# Altium schematic symbol library bs_libs.SchLib: 114 symbols
Pins are listed as number, name and electrical type; pins without a type are passive.

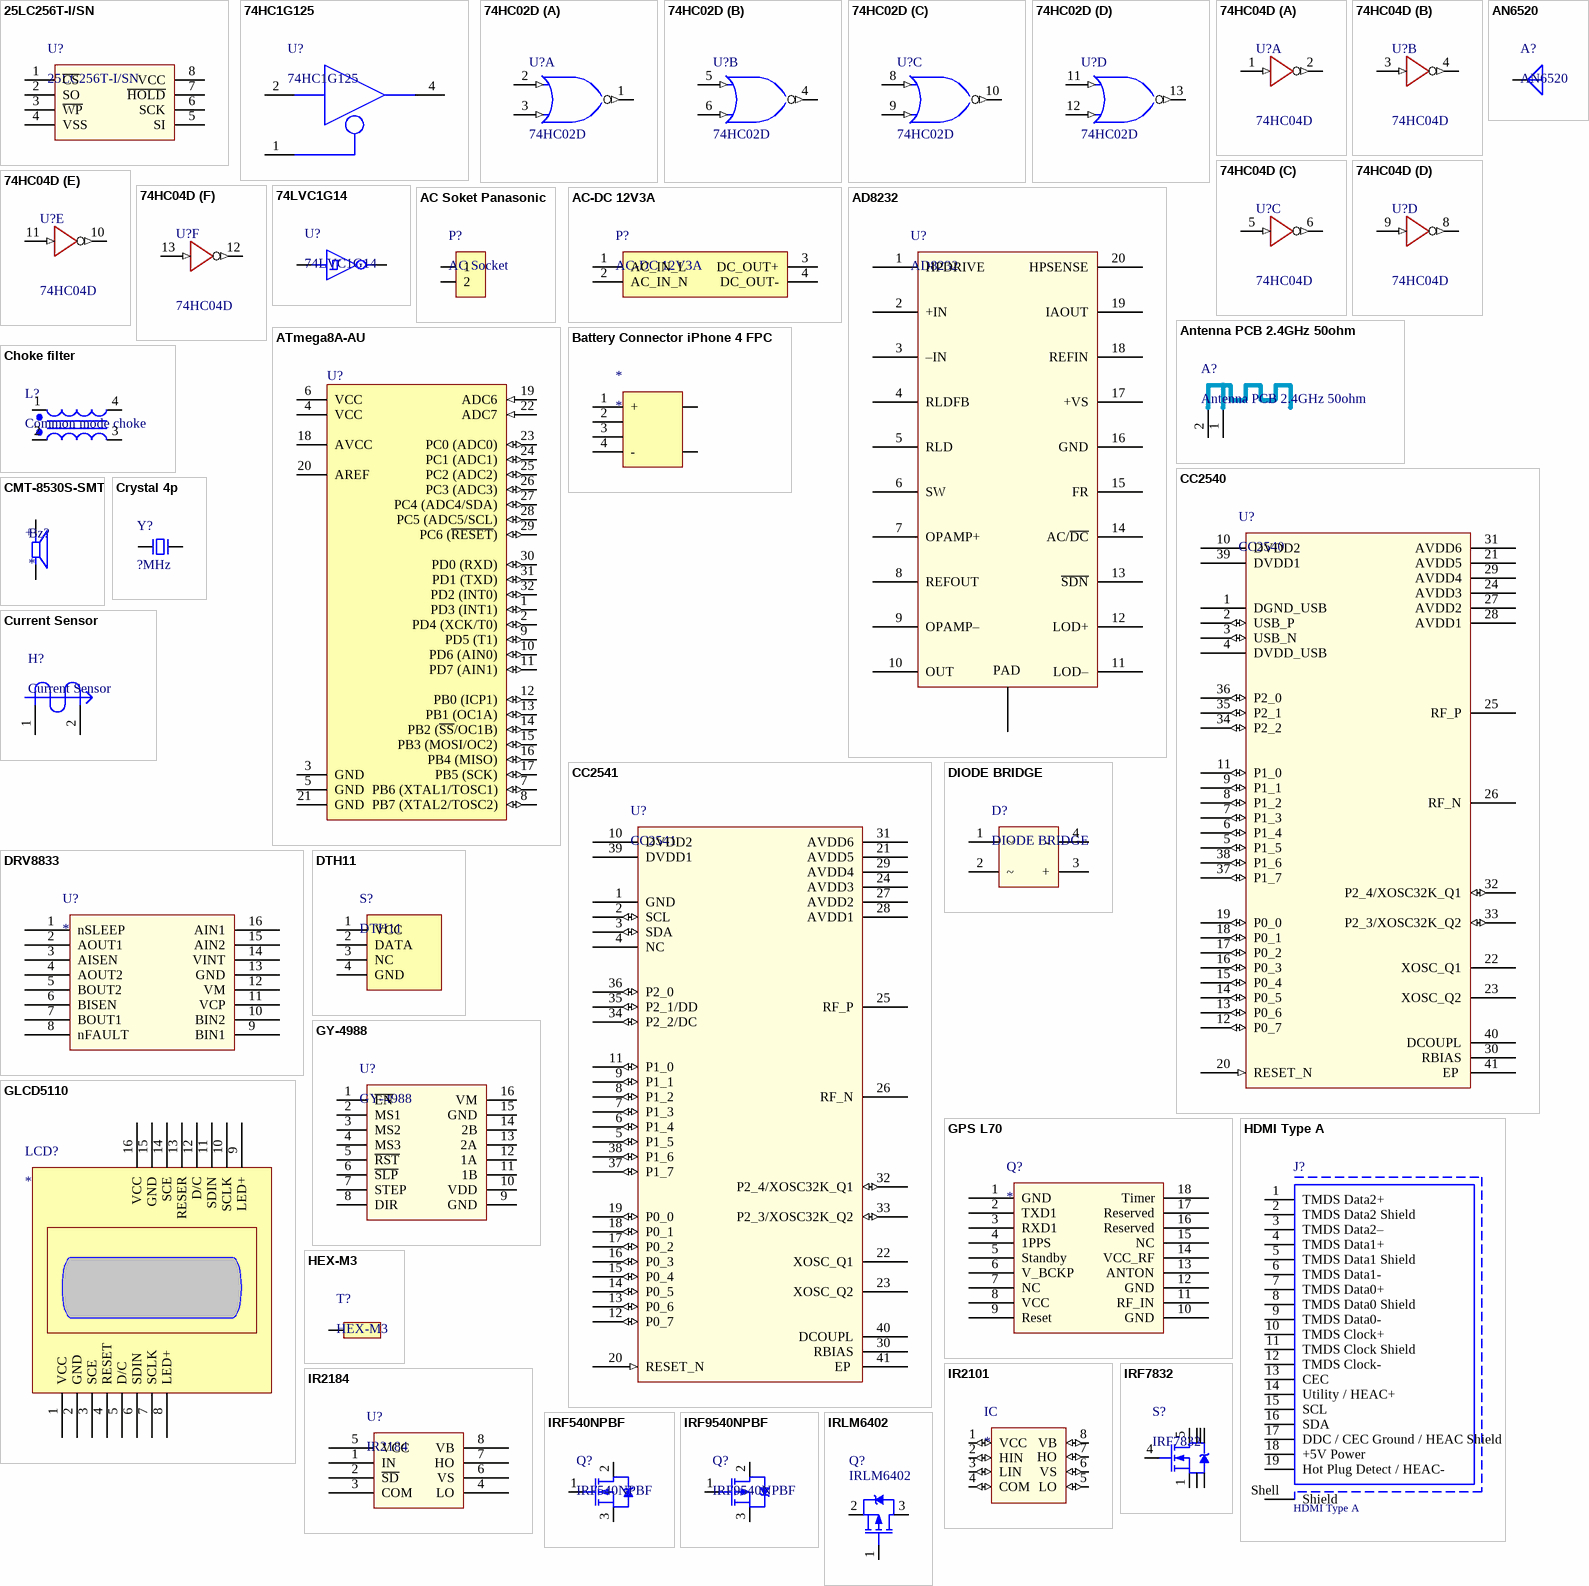
[diagram p0: symbols 25LC256T-I/SN to IRLM6402]

## 25LC256T-I/SN
designator U?
IC EEPROM 256K SPI 10MHZ 8SOIC
footprint SOIC-8-I/SN (SOIC, 8-Leads, Body 5.0x4.0mm (max), Pitch 1.27mm, IPC Medium Density)
pins: 1 ~{CS}, 2 SO, 3 ~{WP} (power), 4 VSS, 5 SI, 6 SCK, 7 ~{HOLD}, 8 VCC

## 74HC1G125
designator U?
footprint TSSOP5
pins: 1 ~{OE}, 2 A, 3 GND (power) hidden to GND, 4 Y, 5 VCC (power) hidden to VCC

## 74HC02D
designator U?
Quadruple 2-Input Positive-NOR Gate
footprint SOIC-14 (SOIC, 14-Leads, Body 8.6x3.9mm (max), Pitch 1.27mm, IPC Medium Density)
pins on every part: 7 GND (power) hidden to GND, 14 VCC (power) hidden to VCC
part A pins: 1 Y (out), 2 A (in), 3 B (in)
part B pins: 4 Y (out), 5 A (in), 6 B (in)
part C pins: 8 A (in), 9 B (in), 10 Y (out)
part D pins: 11 A (in), 12 B (in), 13 Y (out)

## 74HC04D
designator U?
IC INVERTER HEX TTL/LSTTL 14SOIC
footprint SOIC-14 (SOIC, 14-Leads, Body 8.6x3.9mm (max), Pitch 1.27mm, IPC Medium Density)
pins on every part: 7 GND (power) hidden to GND, 14 VCC (power) hidden to VCC
part A pins: 1 A1 (in), 2 Y1 (out)
part B pins: 3 A2 (in), 4 Y2 (out)
part C pins: 5 A3 (in), 6 Y3 (out)
part D pins: 8 Y4 (out), 9 A4 (in)
part E pins: 10 Y5 (out), 11 A5 (in)
part F pins: 12 Y6 (out), 13 A6 (in)

## 74LVC1G14
designator U?
IC SNGL SCHMITT TRIG INV 5TSOP
footprint SOT-23-5 (SOT23, 5-Leads, Body 3.0x3.0mm (max), Pitch 0.95mm, IPC Medium Density)
pins: 1 NC hidden, 2 A, 3 GND (power) hidden to GND, 4 Y, 5 VCC (power) hidden to VCC

## AC Soket Panasonic
designator P?, comment AC Socket
AC Soket Panasonic
footprint AC Socket Panasonic (O cam dien panasonic)
pins: 1, 2

## AC-DC 12V3A
designator P?
footprint AC-DC 12V3A (O cam dien panasonic)
footprint AC-DC 12V2A (O cam dien panasonic)
footprint AC-DC 12V1A
pins: 1 AC_IN_L, 2 AC_IN_N, 3 DC_OUT+, 4 DC_OUT-

## AD8232
designator U?
footprint QFN P50 20 AD8232
pins: 0 PAD, 1 HPDRIVE, 2 +IN, 3 –IN, 4 RLDFB, 5 RLD, 6 SW, 7 OPAMP+, 8 REFOUT, 9 OPAMP–, 10 OUT, 11 LOD–, 12 LOD+, 13 ~{SDN}, 14 AC/~{DC}, 15 FR, 16 GND, 17 +VS, 18 REFIN, 19 IAOUT, 20 HPSENSE

## AN6520
designator A?
2.4GHz SMD Multilayer Chip Antenna 6.5x2.2x1.0 mm; BRAND: Rainsun; PACKAGE: 6.5mm(L)X2.2mm(W)X1.0mm(H); PART NO: AN6520; STOCK CODE: AN6520; SUPPLIER: TME; TYPE: SMD
footprint AN6520 (2.4GHz SMD Multilayer Chip Antenna 6.5x2.2x1.0 mm)
pins: 1, 2 hidden

## Antenna PCB 2.4GHz 50ohm
designator A?
TYPE: DNF
footprint Antenna PCB 2.4GHz 50ohm
pins: 1, 2

## ATmega8A-AU
designator U?
8-bit AVR Microcontroller, 8KB Flash, 512 Bytes EEPROM, 1KB SRAM, 32-pin TQFP, Industrial Grade (-40°C to 85°C)
footprint QFP 80P 32 (TQFP, 32-Leads, Body 9.0x9.0mm (max), Pitch 0.80mm, IPC Medium Density)
pins: 1 PD3 (INT1) (io), 2 PD4 (XCK/T0) (io), 3 GND (power), 4 VCC (power), 5 GND (power), 6 VCC (power), 7 PB6 (XTAL1/TOSC1) (io), 8 PB7 (XTAL2/TOSC2) (io), 9 PD5 (T1) (io), 10 PD6 (AIN0) (io), 11 PD7 (AIN1) (io), 12 PB0 (ICP1) (io), 13 PB1 (OC1A) (io), 14 PB2 (~{SS}/OC1B) (io), 15 PB3 (MOSI/OC2) (io), 16 PB4 (MISO) (io), 17 PB5 (SCK) (io), 18 AVCC (power), 19 ADC6 (in), 20 AREF (power), 21 GND (power), 22 ADC7 (in), 23 PC0 (ADC0) (io), 24 PC1 (ADC1) (io), 25 PC2 (ADC2) (io), 26 PC3 (ADC3) (io), 27 PC4 (ADC4/SDA) (io), 28 PC5 (ADC5/SCL) (io), 29 PC6 (~{RESET}) (io), 30 PD0 (RXD) (io), 31 PD1 (TXD) (io), 32 PD2 (INT0) (io)

## Battery Connector iPhone 4 FPC
designator *
footprint CON iPhone 4 Battery (FPC Flex Battery Connector Plug For iPhone 4 4G)
pins: 1 +, 2 NC, 3 NC, 4 -, 5 PAD, 6 PAD

## CC2540
designator U?
IC SOC BLUETOOTH SMART 40VQFN; PART NO: CC2540F128RHAR; BRAND: TI; PACKAGE: 40-VFQFN; TYPE: SMD
footprint QFN P50 40 CC254x (L)
footprint QFN P50 40 CC254x (N)
pins: 1 DGND_USB "Connect to GND", 2 USB_P (io) "USB P", 3 USB_N (io) "USB N", 4 DVDD_USB "2-V–3.6-V digital power-supply connection", 5 P1_5 (io) "Port 1.5", 6 P1_4 (io) "Port 1.4", 7 P1_3 (io) "Port 1.3", 8 P1_2 (io) "Port 1.2", 9 P1_1 (io) "Port 1.1 – 20-mA drive capability", 10 DVDD2 "2-V–3.6-V digital power-supply connection", 11 P1_0 (io) "Port 1.0 – 20-mA drive capability", 12 P0_7 (io) "Port 0.7", 13 P0_6 (io) "Port 0.6", 14 P0_5 (io) "Port 0.5", 15 P0_4 (io) "Port 0.4", 16 P0_3 (io) "Port 0.3", 17 P0_2 (io) "Port 0.2", 18 P0_1 (io) "Port 0.1", 19 P0_0 (io) "Port 0.0", 20 RESET_N (in) "Digital input", 21 AVDD5 "2-V–3.6-V analog power-supply connection", 22 XOSC_Q1 "32-MHz crystal oscillator pin 1 or external-clock input", 23 XOSC_Q2 "32-MHz crystal oscillator pin 2", 24 AVDD3 "2-V–3.6-V analog power-supply connection", 25 RF_P "Positive RF input signal to LNA during RX", 26 RF_N "Negative RF input signal to LNA during RX", 27 AVDD2 "2-V–3.6-V analog power-supply connection", 28 AVDD1 "2-V–3.6-V analog power-supply connection", 29 AVDD4 "2-V–3.6-V analog power-supply connection", 30 RBIAS "External precision bias resistor for reference current", 31 AVDD6 "2-V–3.6-V analog power-supply connection", 32 P2_4/XOSC32K_Q1 (io) "Port 2.4/32.768 kHz XOSC", 33 P2_3/XOSC32K_Q2 (io) "Port 2.3/32.768 kHz XOSC", 34 P2_2 (io) "Port 2.2", 35 P2_1 (io) "Port 2.1", 36 P2_0 (io) "Port 2.0", 37 P1_7 (io) "Port 1.7", 38 P1_6 (io) "Port 1.6", 39 DVDD1 "2-V–3.6-V digital power-supply connection", 40 DCOUPL "1.8-V digital power-supply decoupling. Do not use for supplying external circuits.", 41 EP  "Exposed Pad"

## CC2541
designator U?
IC SOC BLUETOOTH SMART 40VQFN; BRAND: TI; PACKAGE: 40-VFQFN; TYPE: SMD
footprint QFN P50 40 CC254x (L)
footprint QFN P50 40 CC254x (N)
pins: 1 GND "Connect to GND", 2 SCL (io) "Can be used as I2C clock pin or digital I/O", 3 SDA (io) "Can be used as I2C data pin or digital I/O", 4 NC "Not connected", 5 P1_5 (io) "Port 1.5", 6 P1_4 (io) "Port 1.4", 7 P1_3 (io) "Port 1.3", 8 P1_2 (io) "Port 1.2", 9 P1_1 (io) "Port 1.1 – 20-mA drive capability", 10 DVDD2 "2-V–3.6-V digital power-supply connection", 11 P1_0 (io) "Port 1.0 – 20-mA drive capability", 12 P0_7 (io) "Port 0.7", 13 P0_6 (io) "Port 0.6", 14 P0_5 (io) "Port 0.5", 15 P0_4 (io) "Port 0.4", 16 P0_3 (io) "Port 0.3", 17 P0_2 (io) "Port 0.2", 18 P0_1 (io) "Port 0.1", 19 P0_0 (io) "Port 0.0", 20 RESET_N (in) "Digital input", 21 AVDD5 "2-V–3.6-V analog power-supply connection", 22 XOSC_Q1 "32-MHz crystal oscillator pin 1 or external-clock input", 23 XOSC_Q2 "32-MHz crystal oscillator pin 2", 24 AVDD3 "2-V–3.6-V analog power-supply connection", 25 RF_P "Positive RF input signal to LNA during RX", 26 RF_N "Negative RF input signal to LNA during RX", 27 AVDD2 "2-V–3.6-V analog power-supply connection", 28 AVDD1 "2-V–3.6-V analog power-supply connection", 29 AVDD4 "2-V–3.6-V analog power-supply connection", 30 RBIAS "External precision bias resistor for reference current", 31 AVDD6 "2-V–3.6-V analog power-supply connection", 32 P2_4/XOSC32K_Q1 (io) "Port 2.4/32.768 kHz XOSC", 33 P2_3/XOSC32K_Q2 (io) "Port 2.3/32.768 kHz XOSC", 34 P2_2/DC (io) "Port 2.2 / debug clock", 35 P2_1/DD (io) "Port 2.1 / debug data", 36 P2_0 (io) "Port 2.0", 37 P1_7 (io) "Port 1.7", 38 P1_6 (io) "Port 1.6", 39 DVDD1 "2-V–3.6-V digital power-supply connection", 40 DCOUPL "1.8-V digital power-supply decoupling. Do not use for supplying external circuits.", 41 EP  "Exposed Pad"

## Choke filter
designator L?, comment Common mode choke
Common Mode Choke electrical filter
footprint FIL UU9.8 (VARISTOR 23V 250A DISC 7MM)
footprint FIL UU10.5 (VARISTOR 23V 250A DISC 7MM)
pins: 1 A1, 2 A2, 3 B1, 4 B2

## CMT-8530S-SMT
designator Bz?
8.5 mm, 3.6 Vo-p, 90 dB, Surface Mount _SMT_, Magnetic Audio Transducer Buzzer; MP: CMT-8530S-SMT-TR; MF: CUI Devices; Availability: Unavailable; SnapEDA_Link: https://www.snapeda.com/parts/CMT-8530S-SMT-TR/CUI%20Devices/view-part/649163/?ref=snap; CUI_purchase_URL: https://www.cuidevices.com/product/audio/buzzers/audio-transducers/cmt-8530s-smt-tr?utm_source=snapeda.com&utm_medium=referral&utm_campaign=snapedaBOM; Package: CUI; Price: None; Value: *
footprint CUI_CMT-8530S-SMT
pins: N, P
text: +

## Crystal 4p
designator Y?, comment ?MHz
Crystal 4p
footprint Crystal SMD 4PIN 50x32
footprint Crystal SMD 4PIN 25x20
footprint Crystal SMD 4PIN 32x25
pins: 1 XTAL, 2 GND hidden to GND, 3 XTAL, 4 GND hidden to GND

## Current Sensor
designator H?
Current Sensor/Hall Sensor
footprint Current Sensor 18mm
pins: 1, 2

## DIODE BRIDGE
designator D?
footprint DiodeBridge-DB1S
footprint DiodeBridge-SOIC4; pin to pad 1>3 2>4 3>1 4>2
pins: 1 ~, 2 ~, 3 +, 4 -

## DRV8833
designator U?
footprint HTSSOP16 - DRV8833
pins: 1 nSLEEP, 2 AOUT1, 3 AISEN, 4 AOUT2, 5 BOUT2, 6 BISEN, 7 BOUT1, 8 nFAULT, 9 BIN1, 10 BIN2, 11 VCP, 12 VM, 13 GND, 14 VINT, 15 AIN2, 16 AIN1

## DTH11
designator S?
Temperature and humidity module
footprint DTH11 (Temperature and humidity module)
footprint DTH11/H (Temperature and humidity module)
pins: 1 VCC "power supply 3.5～5.5V DC", 2 DATA "serial data, a single bus", 3 NC "empty pin", 4 GND "ground, the negative power"

## GLCD5110
designator LCD?
footprint GLCD5110
pins: 1 VCC, 2 GND, 3 SCE, 4 RESET, 5 D/C, 6 SDIN, 7 SCLK, 8 LED+, 9 LED+, 10 SCLK, 11 SDIN, 12 D/C, 13 RESER, 14 SCE, 15 GND, 16 VCC

## GPS L70
designator Q?
QUECTEL L70 GPS
footprint GPS L70
pins: 1 GND, 2 TXD1, 3 RXD1, 4 1PPS, 5 Standby, 6 V_BCKP, 7 NC, 8 VCC, 9 Reset, 10 GND, 11 RF_IN, 12 GND, 13 ANTON, 14 VCC_RF, 15 NC, 16 Reserved, 17 Reserved, 18 Timer

## GY-4988
designator U?
footprint GY-4988 (Step motor driver)
pins: 1 ~{EN}, 2 MS1, 3 MS2, 4 MS3, 5 ~{RST}, 6 ~{SLP}, 7 STEP, 8 DIR, 9 GND, 10 VDD, 11 1B, 12 1A, 13 2A, 14 2B, 15 GND, 16 VM

## HDMI Type A
designator J?
HDMI Type A Receptacle WR-HDMI, Horizontal, SMT; Part Number: 685119134923; Rated Current: 0.5 A; Contact Resistance: 30 mOhm; Working Voltage: 40 VDC; ComponentLink1Description: Manufacturer; ComponentLink1URL: http://www.we-online.de; ComponentLink2Description: Datasheet; ComponentLink2URL: https://katalog.we-online.de/em/datasheet/685119134923.pdf; Published Date: September 2018; Publisher: Wurth Elektronik; Orientation: Horizontal; Connector Type: HDMI Type A; Operating Temperature: -20 to 85 degC; Mounting Technology: SMT; Gender: Receptacle; Packaging: Tape and Reel
footprint HDMI Type A (HDMI SMT Horizontal)
pins: 1 TMDS Data2+, 2 TMDS Data2 Shield, 3 TMDS Data2–, 4 TMDS Data1+, 5 TMDS Data1 Shield, 6 TMDS Data1-, 7 TMDS Data0+, 8 TMDS Data0 Shield, 9 TMDS Data0-, 10 TMDS Clock+, 11 TMDS Clock Shield, 12 TMDS Clock-, 13 CEC, 14 Utility / HEAC+, 15 SCL, 16 SDA, 17 DDC / CEC Ground / HEAC Shield, 18 +5V Power, 19 Hot Plug Detect / HEAC-, Shell Shield

## HEX-M3
designator T?
footprint HEX-MF-M3-10-6
pins: 1

## IR2101
designator IC
Half-Bridge Gate Driver IC Non-Inverting 8-SOIC; MP: IR2101; MF: Infineon; Availability: Unavailable; Package: DIP-8 International Rectifier; SnapEDA_Link: https://www.snapeda.com/parts/IR2101/Infineon%20Technologies/view-part/41866/?ref=snap; Value: *; Price: None
footprint SOIC-8-I/SN (SOIC, 8-Leads, Body 5.0x4.0mm (max), Pitch 1.27mm, IPC Medium Density)
pins: 1 VCC (io), 2 HIN (io), 3 LIN (io), 4 COM (io), 5 LO (io), 6 VS (io), 7 HO (io), 8 VB (io)

## IR2184
designator U?
HALF-BRIDGE DRIVER
footprint SOIC-8 (SOIC, 8-Leads, Body 5.0x4.0mm (max), Pitch 1.27mm, IPC Medium Density)
pins: 1 IN, 2 ~{SD}, 3 COM, 4 LO, 5 VCC, 6 VS, 7 HO, 8 VB

## IRF540NPBF
designator Q?
MOSFET N-CH 100V 33A TO-220AB; BRAND: Infineon; TYPE: MI; PACKAGE: TO-220AB; PART NO: IRF540NPBF; STOCK CODE: IRF540NPBF-ND; SUPPLIER: Digi-Key
footprint TO-220AB
footprint TO-220AB L
footprint TO-220/HeatSink
pins: 1 G, 2 D, 3 S

## IRF7832
designator S?
MOSFET N-CH 30V 20A 8-SOIC; PART NO: IRF7832TRPBF; BRAND: Infineon; PACKAGE: 8-SOIC; STOCK CODE: IRF7832PBFCT-ND; SUPPLIER: Digi-Key; TYPE: SMD
footprint SOIC-8 (SOIC, 8-Leads, Body 5.0x4.0mm (max), Pitch 1.27mm, IPC Medium Density)
pins: 1 S, 2 S, 3 S, 4 G, 5 D, 6 D, 7 D, 8 D

## IRF9540NPBF
designator Q?
MOSFET P-CH 100V 23A TO-220AB; BRAND: Infineon; TYPE: MI; PACKAGE: TO-220AB; PART NO: IRF9540NPBF; STOCK CODE: IRF9540NPBF-ND; SUPPLIER: Digi-Key
footprint TO-220AB
footprint TO-220AB L
footprint TO-220/HeatSink
pins: 1 G, 2 D, 3 S

## IRLM6402
designator Q?
MOSFET P-Channel
footprint SOT-23 (SOT23, 3-Leads, Body 3.0x2.5mm (max), Pitch 0.95mm, IPC Medium Density)
pins: 1 G, 2 S, 3 D

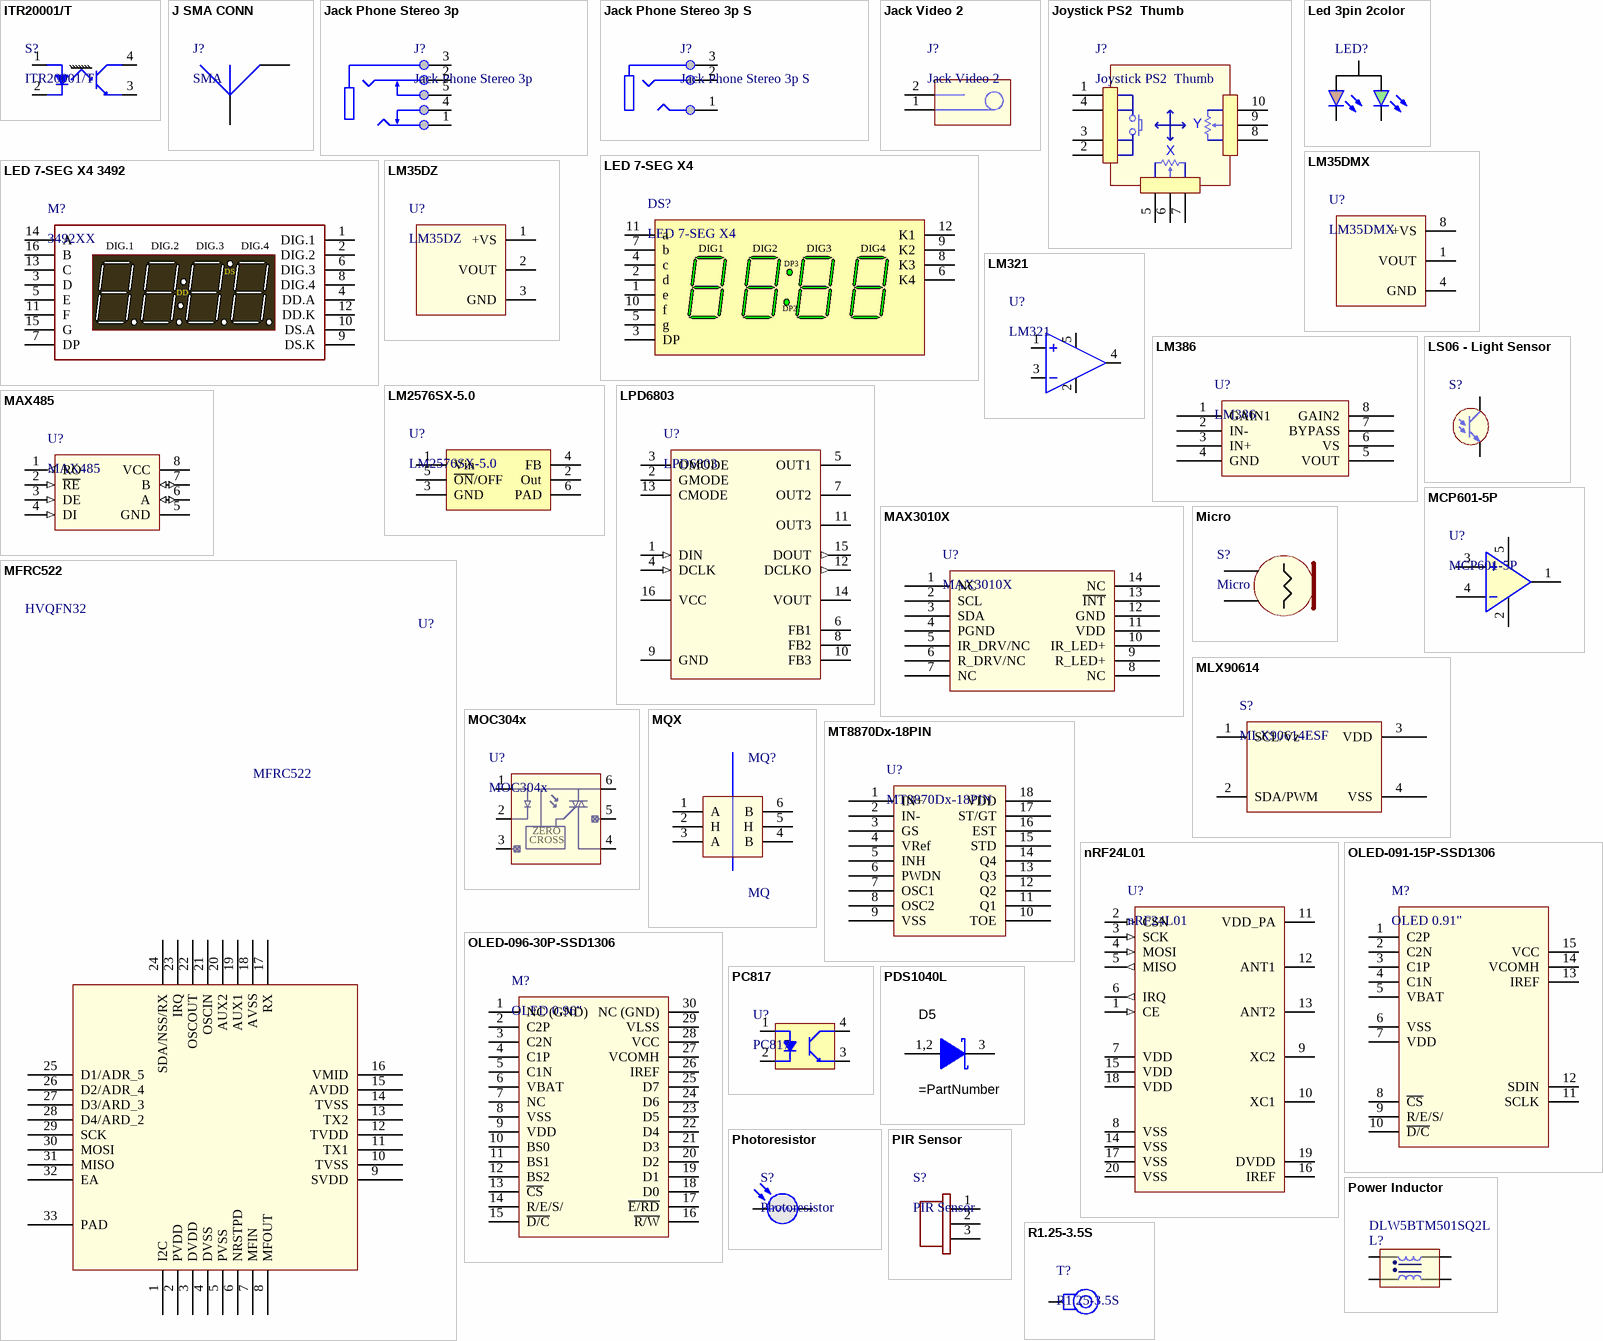
[diagram p1: symbols ITR20001/T to R1.25-3.5S]

## ITR20001/T
designator S?
OPTO INTERRUPTER
footprint ITR20001
pins: 1 A, 2 K, 3 E, 4 C

## J SMA CONN
designator J?, comment SMA
CONN SMA JACK R/A 50 OHM PCB
footprint J SMA CONN (Connector; RF Coaxial, MCX, Thru-Hole; 5 Position; Right Angle)
footprint J SMA CONN R/A (Connector; RF Coaxial, MCX, Thru-Hole; 5 Position; Right Angle)
pins: 1 SIG, 2 PAD

## Jack Phone Stereo 3p
designator J?
Connector Stereo Phone 3 poles
footprint J Phone 3 (Jack Phone 3-pole 5-pin)
pins: 1 L, 2 R, 3 COM, 4 LS, 5 RS

## Jack Phone Stereo 3p S
designator J?
Connector Stereo Phone 3 poles simple
footprint J Phone PJ-313 (Jack Phone 3-pole 5-pin)
footprint J Phone PJ-313D (Jack Phone 3-pole 5-pin)
pins: 1 L, 2 R, 3 COM

## Jack Video 2
designator J?
footprint J Video Jack (CFC UBEC 5V/3A Switching Module)
pins: 1 ~{OE}, 2 A

## Joystick PS2  Thumb
designator J?
footprint Joystick PS2 Thumb
pins: 1 K1, 2 K2, 3 K3, 4 K4, 5 X1, 6 X2, 7 X3, 8 Y1, 9 Y2, 10 Y3
text: Y; X

## Led 3pin 2color
designator LED?
Typical LED 3-pin 2-color
footprint LED 3PIN 2COLOR 5MM
pins: 1 RK, 2 A, 3 YK

## LED 7-SEG X4
designator DS?
LED 7-seg x4 HDSP-B09G
footprint LED 7-SEG X4 B-88 (LED, 7-Segment Display, 14.22 mm, Four Digit, 88:88; 12 Leads; Row Space 15.24 mm; Pitch 2.54 mm)
pins: 1 e "Digits (1-4) e Anode", 2 d "Digits (1-4) d Anode", 3 DP "Digits (2,3) DP Anode", 4 c "Digits (1-4) c Anode", 5 g "Digits (1-4) g Anode", 6 K4 "Digit 4 Common Cathode", 7 b "Digits (1-4) b Anode", 8 K3 "Digit 3 Common Cathode", 9 K2 "Digit 2 Common Cathode", 10 f "Digits (1-4) f Anode", 11 a "Digits (1-4) a Anode", 12 K1 "Digit 1 Common Cathode"
text: DIG1; DIG2; DIG3; DIG4; DP3; DP2

## LED 7-SEG X4 3492
designator M?, comment 3492XX
LED 7-seg x4 HDSP-B09G
footprint LED 7-SEG X4 3492XX (LED, 7-Segment Display, 14.22 mm, Four Digit, 88:88; 12 Leads; Row Space 15.24 mm; Pitch 2.54 mm)
pins: 1 DIG.1, 2 DIG.2, 3 D, 4 DD.A, 5 E, 6 DIG.3, 7 DP, 8 DIG.4, 9 DS.K, 10 DS.A, 11 F, 12 DD.K, 13 C, 14 A, 15 G, 16 B
text: DS; DD

## LM35DMX
designator U?
SENSOR ANALOG 0C-100C 8SOIC
footprint SOIC-8-I/SN (SOIC, 8-Leads, Body 5.0x4.0mm (max), Pitch 1.27mm, IPC Medium Density)
pins: 1 VOUT, 2 NC hidden, 3 NC hidden, 4 GND, 5 NC hidden, 6 NC hidden, 7 NC hidden, 8 +VS

## LM35DZ
designator U?
SENSOR ANALOG 0C-100C TO92-3
footprint TO-92/W100
pins: 1 +VS, 2 VOUT, 3 GND

## LM321
designator U?
IC OPAMP GP 1 CIRCUIT SOT23-5
footprint SOT-23-5 (SOT23, 5-Leads, Body 3.0x3.0mm (max), Pitch 0.95mm, IPC Medium Density)
pins: 1 +IN, 2 V-, 3 -IN, 4 OUT, 5 V+

## LM386
designator U?
Low Voltage Audio Power Amplifier
footprint SOIC-8 (SOIC, 8-Leads, Body 5.0x4.0mm (max), Pitch 1.27mm, IPC Medium Density)
pins: 1 GAIN1, 2 IN-, 3 IN+, 4 GND, 5 VOUT, 6 VS, 7 BYPASS, 8 GAIN2

## LM2576SX-5.0
designator U?
IC REG BUCK 5V 3A TO263-5; PART NO: LM2576SX-5.0/NOPB; BRAND: TI; PACKAGE: TO-263-6; STOCK CODE: LM2576SX-5.0/NOPBCT-ND; SUPPLIER: Digi-Key; TYPE: SMD
footprint TO-263-6 (D2-PAK, 6-Pads, Body 8.9x10.4mm (max), IPC Medium Density)
pins: 1 Vin, 2 Out, 3 GND, 4 FB, 5 ~{ON}/OFF, 6 PAD

## LPD6803
designator U?
3-channel LED constant-current driver
footprint SOIC-16 (SOIC, 16-Leads, Body 10.0x4.0mm (max), Pitch 1.27mm, IPC Medium Density)
pins: 1 DIN (in) "Serial data input", 2 GMODE "Grey-level regulate mode", 3 OMODE "Control output polarity", 4 DCLK (in) "Serial data clock input", 5 OUT1 "Driver output", 6 FB1 "Feedback", 7 OUT2 "Driver output", 8 FB2 "Feedback", 9 GND (power) "Ground", 10 FB3 "Feedback", 11 OUT3 "Driver output", 12 DCLKO (out) "Serial clock output", 13 CMODE "Choose inside grey clock", 14 VOUT, 15 DOUT (out) "Serial data output", 16 VCC (power) "LDO power 4.5-8.0V"

## LS06 - Light Sensor
designator S?, comment LS06  (value not drawn)
Light Sensor
footprint LS06
pins: 1 C, 2 E

## MAX485
designator U?
Low-Power, Slew-Rate-Limited  RS-485/RS-422 Transceivers
footprint SOIC-8 (SOIC, 8-Leads, Body 5.0x4.0mm (max), Pitch 1.27mm, IPC Medium Density)
pins: 1 RO (out) "Logic Data Output from RS-485 Receiver", 2 ~{RE} (in) "Receive Enable (active low)", 3 DE (in) "Driver Enable (active high)", 4 DI (in) "Logic Data Input to RS-485 Driver", 5 GND "Device Ground Pin", 6 A (io) "RS-422 or RS-485 Data Line", 7 B (io) "RS-422 or RS-485 Data Line", 8 VCC "Power Input. Connect to 5-V Power Source."

## MAX3010X
designator U?
footprint MAX30102
footprint MAX30100
pins: 1 NC, 2 SCL, 3 SDA, 4 PGND, 5 IR_DRV/NC, 6 R_DRV/NC, 7 NC, 8 NC, 9 R_LED+, 10 IR_LED+, 11 VDD, 12 GND, 13 ~{INT}, 14 NC

## MCP601-5P
designator U?
MCP601 SOT23-5
footprint SOT-23-5 (SOT23, 5-Leads, Body 3.0x3.0mm (max), Pitch 0.95mm, IPC Medium Density)
pins: 1 OUT, 2 V-, 3 +IN, 4 -IN, 5 V+

## MFRC522
designator U?  PACKAGE: HVQFN32
IC READER 13.56MHZ 32-HVQFN; PART NO: MFRC52201HN1; BRAND: NXP; TYPE: SMD
footprint HVQFN32
footprint HVQFN32-L
pins: 1 I2C, 2 PVDD, 3 DVDD, 4 DVSS, 5 PVSS, 6 NRSTPD, 7 MFIN, 8 MFOUT, 9 SVDD, 10 TVSS, 11 TX1, 12 TVDD, 13 TX2, 14 TVSS, 15 AVDD, 16 VMID, 17 RX, 18 AVSS, 19 AUX1, 20 AUX2, 21 OSCIN, 22 OSCOUT, 23 IRQ, 24 SDA/NSS/RX, 25 D1/ADR_5, 26 D2/ADR_4, 27 D3/ARD_3, 28 D4/ARD_2, 29 SCK, 30 MOSI, 31 MISO, 32 EA, 33 PAD

## Micro
designator S?
Microphone - Sound Sensor
footprint Micro 6mm Small
footprint Micro 10mm
pins: 1, 2

## MLX90614
designator S?, comment MLX90614ESF
footprint MLX90614
pins: 1 SCL/Vz, 2 SDA/PWM, 3 VDD, 4 VSS

## MOC304x
designator U?
6-Pin DIP Random-Phase Optoisolators Triac Driver Output (250/400 Volt Peak)
footprint DIP 6 (DIP IC (2.54mm), 6 pins)
pins: 1 A, 2 K, 3 NC, 4 T2, 5 NC, 6 T1
text: ZERO; CROSS

## MQX
designator MQ?, comment MQ
footprint MQx (Cam bien gas)
pins: 1 A, 2 H, 3 A, 4 B, 5 H, 6 B

## MT8870Dx-18PIN
designator U?
footprint SOP 18 50p
pins: 1 IN+, 2 IN-, 3 GS, 4 VRef, 5 INH, 6 PWDN, 7 OSC1, 8 OSC2, 9 VSS, 10 TOE, 11 Q1, 12 Q2, 13 Q3, 14 Q4, 15 STD, 16 EST, 17 ST/GT, 18 VDD

## nRF24L01
designator U?
IC RF TRANSCEIVER 2.4GHZ 20QFN; PART NO: NRF24L01P-R7; BRAND: Nordic; PACKAGE: QFN-20; TYPE: SMD
footprint QFN P50 20 nRF24L01
pins: 1 CE (in) "Chip Enable Activates RX or TX mode", 2 CSN (in) "SPI Chip Select", 3 SCK (in) "SPI Clock", 4 MOSI (in) "SPI Slave Data Input", 5 MISO (out) "SPI Slave Data Output, with tri-state option", 6 IRQ (out) "Maskable interrupt pin. Active low", 7 VDD (power) "Power Supply (+1.9V - +3.6V DC)", 8 VSS (power) "Ground (0V)", 9 XC2 "Crystal Pin 2", 10 XC1 "Crystal Pin 1", 11 VDD_PA "Power Supply Output (+1.8V) for the internal nRF24L01+ Power Amplifier.", 12 ANT1 "Antenna interface 1", 13 ANT2 "Antenna interface 2", 14 VSS (power) "Ground (0V)", 15 VDD (power) "Power Supply (+1.9V - +3.6V DC)", 16 IREF "Reference current. Connect a 22kΩ resistor to ground", 17 VSS (power) "Ground (0V)", 18 VDD (power) "Power Supply (+1.9V - +3.6V DC)", 19 DVDD "Internal digital supply output for de-coupling purposes.", 20 VSS (power) "Ground (0V)"

## OLED-091-15P-SSD1306
designator M?, comment OLED 0.91"
LCD OLED 0.91 inch 15 pins SSD1306
footprint OLED-091-15P-SSD1306
footprint OLED-091-15P-SSD1306-2
pins: 1 C2P, 2 C2N, 3 C1P, 4 C1N, 5 VBAT, 6 VSS, 7 VDD, 8 ~{CS}, 9 R/E/S/, 10 ~{D/C}, 11 SCLK, 12 SDIN, 13 IREF, 14 VCOMH, 15 VCC

## OLED-096-30P-SSD1306
designator M?, comment OLED 0.96"
LCD OLED 0.96 inch 30 pins SSD1306
footprint OLED-096-30P-SSD1306
pins: 1 NC (GND), 2 C2P, 3 C2N, 4 C1P, 5 C1N, 6 VBAT, 7 NC, 8 VSS, 9 VDD, 10 BS0, 11 BS1, 12 BS2, 13 ~{CS}, 14 R/E/S/, 15 ~{D/C}, 16 ~{R/W}, 17 ~{E/RD}, 18 D0, 19 D1, 20 D2, 21 D3, 22 D4, 23 D5, 24 D6, 25 D7, 26 IREF, 27 VCOMH, 28 VCC, 29 VLSS, 30 NC (GND)

## PC817
designator U?
Opto PC817B
footprint DIP4 - PC817
footprint SOP4 - PC817
pins: 1 A, 2 K, 3 E, 4 C

## PDS1040L
designator D5
Diode Schottky 40V 10A Surface Mount PowerDI™ 5; Supplier: Digi-Key
footprint Diode powerdi5 (Diodes Inc recommended land pattern, ap02001.pdf rev 60)
pins: 1 A, 2 A, 3 K
text: 1,2

## Photoresistor
designator S?
Light dependent resistors
footprint PHOTOCELL/5mm (Photoresistor)
footprint PHOTOCELL/12mm (Photoresistor)
pins: 1, 2

## PIR Sensor
designator S?
Pyroelectric Infrared Radial Sensor; TYPE: MI
footprint PIR Sensor
footprint PIR Sensor - Lens L9006
footprint PIR Sensor - Lens S9006
pins: 1 Drain, 2 Source, 3 Ground

## Power Inductor
designator L?, comment DLW5BTM501SQ2L
500R 4A 50V
footprint DLW5BT
pins: 1, 2, 3, 4
text: .

## R1.25-3.5S
designator T?
footprint R1.25-3.5S
pins: 1

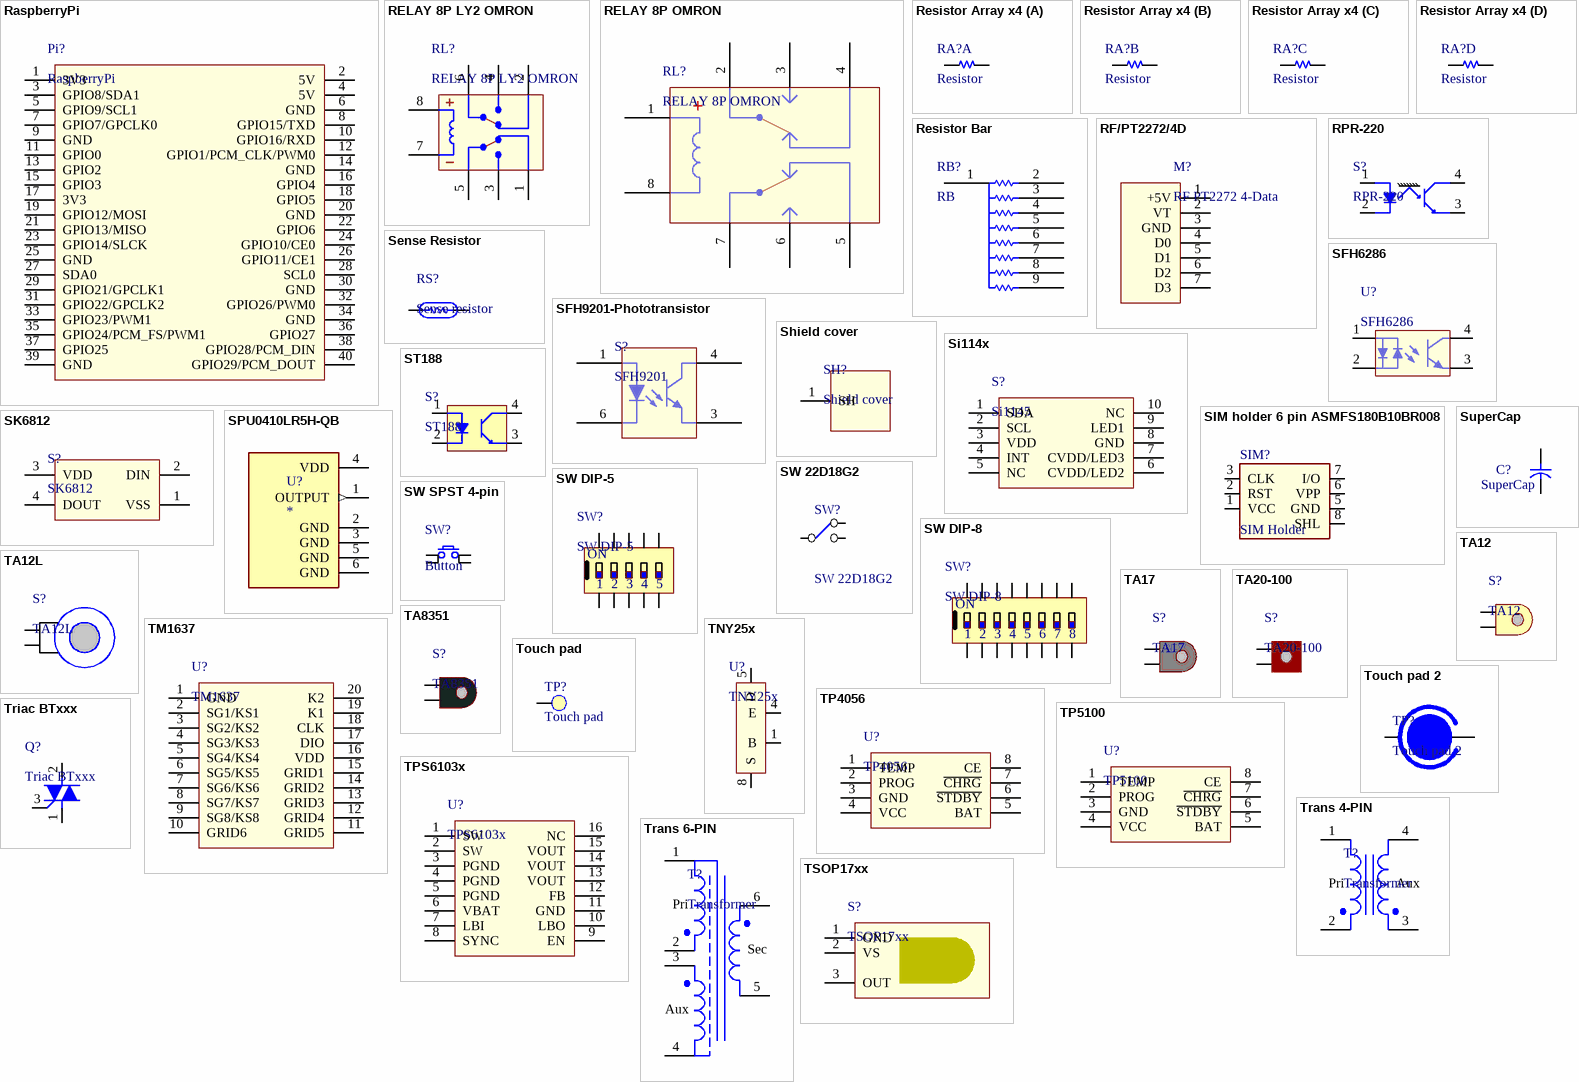
[diagram p2: symbols RaspberryPi to TSOP17xx]

## RaspberryPi
designator Pi?  (no BOM)
footprint RaspberryPi_3B
pins: 1 3V3, 2 5V, 3 GPIO8/SDA1, 4 5V, 5 GPIO9/SCL1, 6 GND, 7 GPIO7/GPCLK0, 8 GPIO15/TXD, 9 GND, 10 GPIO16/RXD, 11 GPIO0, 12 GPIO1/PCM_CLK/PWM0, 13 GPIO2, 14 GND, 15 GPIO3, 16 GPIO4, 17 3V3, 18 GPIO5, 19 GPIO12/MOSI, 20 GND, 21 GPIO13/MISO, 22 GPIO6, 23 GPIO14/SLCK, 24 GPIO10/CE0, 25 GND, 26 GPIO11/CE1, 27 SDA0, 28 SCL0, 29 GPIO21/GPCLK1, 30 GND, 31 GPIO22/GPCLK2, 32 GPIO26/PWM0, 33 GPIO23/PWM1, 34 GND, 35 GPIO24/PCM_FS/PWM1, 36 GPIO27, 37 GPIO25, 38 GPIO28/PCM_DIN, 39 GND, 40 GPIO29/PCM_DOUT

## RELAY 8P LY2 OMRON
designator RL?
footprint RELAY 8P LY2 OMRON (Role OMRON - Vo nhua trong)
pins: 1 NC2, 2 NC1, 3 NO2, 4 NO1, 5 COM2, 6 COM1, 7 N, 8 P

## RELAY 8P OMRON
designator RL?
footprint RELAY 8P OMRON (Role OMRON - Vo nhua trong)
pins: 1 P, 2 COM1, 3 NO1, 4 NC1, 5 NC2, 6 NO2, 7 COM2, 8 N
text: +

## Resistor Array x4
designator RA?, comment Resistor
footprint RAx4 1206 (3216) (Resistor Array x4 1206 (4D03))
part A pins: 1, 8
part B pins: 2, 7
part C pins: 3, 6
part D pins: 4, 5

## Resistor Bar
designator RB?, comment RB
footprint Resistor Bar 9-Pin
pins: 1, 2, 3, 4, 5, 6, 7, 8, 9

## RF/PT2272/4D
designator M?, comment RF PT2272 4-Data
RF 315/433MHz PT2272 4 lines data
footprint RF/PT2272/4D
pins: 1 +5V, 2 VT, 3 GND, 4 D0, 5 D1, 6 D2, 7 D3

## RPR-220
designator S?
Reflective photosensor (photoreflector)
footprint RPR-220 4-pin
pins: 1 A, 2 K, 3 E, 4 C

## Sense Resistor
designator RS?, comment Sense resistor
footprint WSHP2818
pins: 1, 2

## SFH6286
designator U?
footprint SOP4 - SFH6286
pins: 1 A/C, 2 C/A, 3 E, 4 C

## SFH9201-Phototransistor
designator S?, comment SFH9201
footprint SFH9201-Phototransistor
pins: 1 Anode, 2 NC1 hidden, 3 Emitter, 4 Collector, 5 NC2 hidden, 6 Cathode

## Shield cover
designator SH?  (no BOM)
footprint SHIELD COVER 50x35
pins: 1 SH

## Si114x
designator S?, comment Si1145
PROXIMITY/UV/AMBIENT LIGHT SENSOR IC WITH I2C INTERFACE
footprint Si1145
pins: 1 SDA, 2 SCL, 3 VDD, 4 INT, 5 NC, 6 CVDD/LED2, 7 CVDD/LED3, 8 GND, 9 LED1, 10 NC

## SIM holder 6 pin ASMFS180B10BR008
designator SIM?, comment SIM Holder
SIM Card holder, 6 pins, Part no ASMFS180B10BR008
footprint CON SIM Holder ASMFS180B10BR008 (SIM Holder,  6 pins)
pins: 1 VCC (power), 2 RST, 3 CLK, 5 GND (power), 6 VPP, 7 I/O, 8 SHL (power) "Shield"

## SK6812
designator S?
footprint SK6812
pins: 1 VSS, 2 DIN, 3 VDD, 4 DOUT

## SPU0410LR5H-QB
designator U?
100Hz ~ 80kHz Analog Microphone MEMS _Silicon_ 1.5V ~ 3.6V Omnidirectional _-38dB Â±3dB @ 94dB SPL_ Solder Pads; MF: Knowles; MP: SPU0410LR5H-QB; Price: None; Value: *; Package: 2010 Knowles Acoustics; SnapEDA_Link: https://www.snapeda.com/parts/SPU0410LR5H-QB/Knowles/view-part/48340/?ref=snap; Availability: Unavailable
footprint XDCR_SPU0410LR5H-QB
pins: 1 OUTPUT (out), 2 GND (power), 3 GND (power), 4 VDD (power), 5 GND (power), 6 GND (power)

## ST188
designator S?
Photointerrupter Reflective
pins: 1 A, 2 K, 3 E, 4 C

## SuperCap
designator C?
footprint C Super Case A
footprint C Super Case B
footprint C Super 414-VA5R
pins: 1, 2

## SW 22D18G2
designator SW?
footprint MST22D18G2
pins: 1 NC1, 2 COMMON1, 3 NO1

## SW DIP-5
designator SW?
footprint SW/DIP5/300
pins: 1, 2, 3, 4, 5, 6, 7, 8, 9, 10
text: ON

## SW DIP-8
designator SW?
footprint SW/DIP8/300
pins: 1, 2, 3, 4, 5, 6, 7, 8, 9, 10, 11, 12, 13, 14, 15, 16
text: ON

## SW SPST 4-pin
designator SW?, comment Button
Tact switch 4-pin
footprint SW/4/12mm
footprint SW/4/06MM
footprint SW/4/06MM-2
footprint SW/4/12mm-2
pins: 1, 2, 3, 4

## TA12
designator S?
footprint TA12
pins: 1, 2

## TA12L
designator S?
footprint TA12L
pins: 1, 2

## TA17
designator S?
footprint TA17
pins: 1, 2

## TA20-100
designator S?
footprint TA20-100
pins: 3, 4

## TA8351
designator S?
footprint TA8351
pins: 2, 4

## TM1637
designator U?
LED drivers control
footprint SOP 20 50p
pins: 1 GND, 2 SG1/KS1, 3 SG2/KS2, 4 SG3/KS3, 5 SG4/KS4, 6 SG5/KS5, 7 SG6/KS6, 8 SG7/KS7, 9 SG8/KS8, 10 GRID6, 11 GRID5, 12 GRID4, 13 GRID3, 14 GRID2, 15 GRID1, 16 VDD, 17 DIO, 18 CLK, 19 K1, 20 K2

## TNY25x
designator U?
TinySwitch Family - Energy Efficient, Low Power Off-line Switchers
footprint DIP 8 (DIP IC (2.54mm), 8 pins)
footprint SMD-8
pins: 1 B "BYPASS", 2 S "SOURCE", 3 S "SOURCE", 4 E "ENABLE", 5 D "DRAIN", 6 S "SOURCE", 7 S "SOURCE", 8 S "SOURCE"

## Touch pad
designator TP?
footprint Touch pad 15mm
pins: 1 TP

## Touch pad 2
designator TP?
Touch pad
footprint Touch pad 2 15mm
pins: 1 TP, 2 Shield

## TP4056
designator U?
1A Standalone Linear Li-lon Battery Charger with Thermal   Regulation in SOP-8
footprint SOIC-8 (SOIC, 8-Leads, Body 5.0x4.0mm (max), Pitch 1.27mm, IPC Medium Density)
pins: 1 TEMP, 2 PROG, 3 GND, 4 VCC, 5 BAT, 6 ~{STDBY}, 7 ~{CHRG}, 8 CE

## TP5100
designator U?
1A Standalone Linear Li-lon Battery Charger with Thermal
pins: 1 TEMP, 2 PROG, 3 GND, 4 VCC, 5 BAT, 6 ~{STDBY}, 7 ~{CHRG}, 8 CE

## TPS6103x
designator U?
TPS61030/1/2 , BOOST CONVERTER WITH 4A SWITCH
footprint HTSSOP16 - TPS6103x
pins: 1 SW, 2 SW, 3 PGND, 4 PGND, 5 PGND, 6 VBAT, 7 LBI, 8 SYNC, 9 EN, 10 LBO, 11 GND, 12 FB, 13 VOUT, 14 VOUT, 15 VOUT, 16 NC

## Trans 4-PIN
designator T?, comment Transformer
Transformer 4-PIN
pins: 1 A1, 2 A2, 3 B1, 4 B2
text: Pri; Aux

## Trans 6-PIN
designator T?, comment Transformer
Transformer 6-PIN
footprint Trans. EE16/6P (Tranformer EE16 6PIN)
footprint Trans. EE13/6P (Tranformer EE13 6PIN)
footprint Trans. EE13/EE16/6P (Tranformer EE16 6PIN)
footprint Trans. EE10/6P/F (Tranformer EE13 6PIN)
pins: 1 A1, 2 A2, 3 B1, 4 B2, 5 C2, 6 C1
text: Pri; Sec; Aux

## Triac BTxxx
designator Q?
footprint TO-220AB
footprint TO-220AB L
pins: 1 T1, 2 T2, 3 G

## TSOP17xx
designator S?
infrared receivers
footprint TSOP17xx (TSOP17xx IR receiver)
pins: 1 GND, 2 VS, 3 OUT

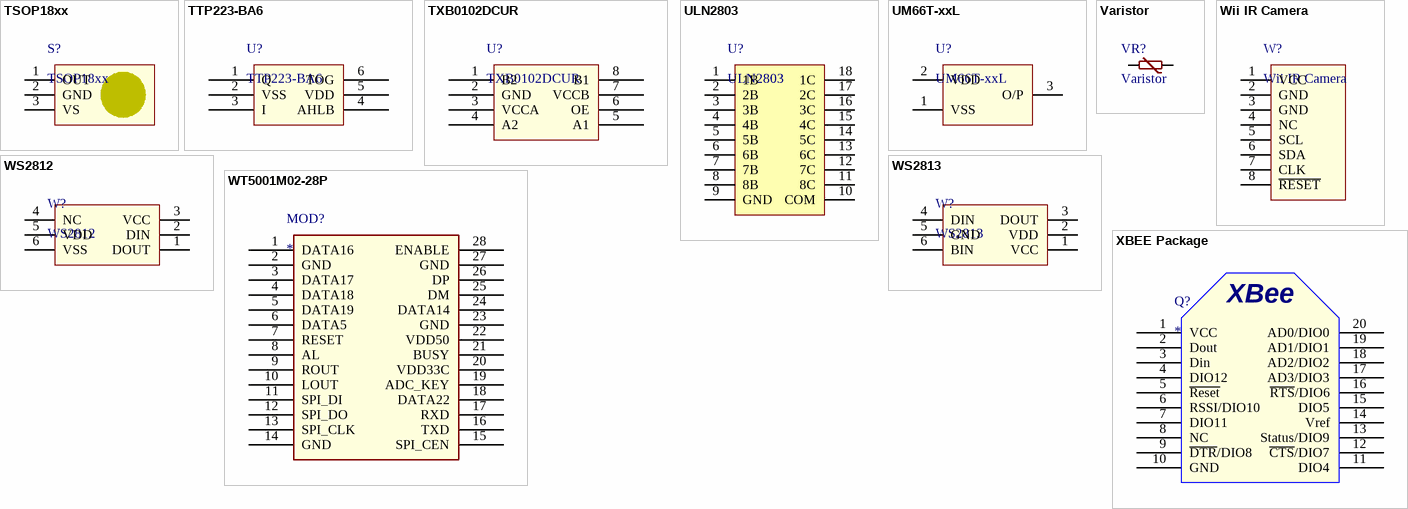
[diagram p3: symbols TSOP18xx to XBEE Package]

## TSOP18xx
designator S?
infrared receivers
footprint TSOP18xx (TSOP18xx IR receiver)
pins: 1 OUT, 2 GND, 3 VS

## TTP223-BA6
designator U?
1 KEY TOUCH PAD DETECTOR
footprint SOP6
pins: 1 Q, 2 VSS, 3 I, 4 AHLB, 5 VDD, 6 TOG

## TXB0102DCUR
designator U?
BRAND: TI; PACKAGE: VSSOP-8; PART NO: TXB0102DCUR; TYPE: SMD
footprint VSSOP8-TXB0102DCUR
pins: 1 B2, 2 GND, 3 VCCA, 4 A2, 5 A1, 6 OE, 7 VCCB, 8 B1

## ULN2803
designator U?
TRANS 8NPN DARL 50V 0.5A 18SO; PART NO: ULN2803ADWR; BRAND: TI; PACKAGE: 18-SOIC; STOCK CODE: 296-15777-1-ND; SUPPLIER: Digi-Key; TYPE: SMD
footprint SOP 18 50p
pins: 1 1B, 2 2B, 3 3B, 4 4B, 5 5B, 6 6B, 7 7B, 8 8B, 9 GND, 10 COM, 11 8C, 12 7C, 13 6C, 14 5C, 15 4C, 16 3C, 17 2C, 18 1C

## UM66T-xxL
designator U?
UM66T-xxL Simple Melody Generator
footprint TO-92/W075
footprint TO-92/W100
footprint TO-92/W100A
footprint TO-92/W050
footprint TO-92/W065
pins: 1 VSS, 2 VDD, 3 O/P

## Varistor
designator VR?
footprint VARISTOR DISC 5.0/7.0MM (VARISTOR 23V 250A DISC 7MM)
footprint VARISTOR DISC 7.5/12.5mm (VARISTOR 23V 250A DISC 7MM)
pins: 1, 2

## Wii IR Camera
designator W?
footprint Wii IR Camera
pins: 1 VCC, 2 GND, 3 GND, 4 NC, 5 SCL, 6 SDA, 7 CLK, 8 ~{RESET}

## WS2812
designator W?
footprint WS2812 (SK6812)
pins: 1 DOUT, 2 DIN, 3 VCC, 4 NC, 5 VDD, 6 VSS

## WS2813
designator W?
footprint WS2812 (SK6812)
pins: 1 VCC, 2 VDD, 3 DOUT, 4 DIN, 5 GND, 6 BIN

## WT5001M02-28P
designator MOD?
pins: 1 DATA16, 2 GND, 3 DATA17, 4 DATA18, 5 DATA19, 6 DATA5, 7 RESET, 8 AL, 9 ROUT, 10 LOUT, 11 SPI_DI, 12 SPI_DO, 13 SPI_CLK, 14 GND, 15 SPI_CEN, 16 TXD, 17 RXD, 18 DATA22, 19 ADC_KEY, 20 VDD33C, 21 BUSY, 22 VDD50, 23 GND, 24 DATA14, 25 DM, 26 DP, 27 GND, 28 ENABLE

## XBEE Package
designator Q?
XBEE Package
footprint XBEE Package
pins: 1 VCC, 2 Dout, 3 Din, 4 DIO12, 5 ~{Reset}, 6 RSSI/DIO10, 7 DIO11, 8 NC, 9 ~{DTR}/DIO8, 10 GND, 11 DIO4, 12 ~{CTS}/DIO7, 13 Status/DIO9, 14 Vref, 15 DIO5, 16 ~{RTS}/DIO6, 17 AD3/DIO3, 18 AD2/DIO2, 19 AD1/DIO1, 20 AD0/DIO0
text: XBee